# Altium footprint library Buttons.PcbLib: 4 footprints
Each footprint in its own frame and in the unit in brackets; x right, y up, seen from the top. Pads: shape width x height; smd on the part's side, far side on the other; paste and mask are expansions set on the pad; w line width, h text height; cw(c..) or ccw(c..) is an arc to the next point about the centre after c.
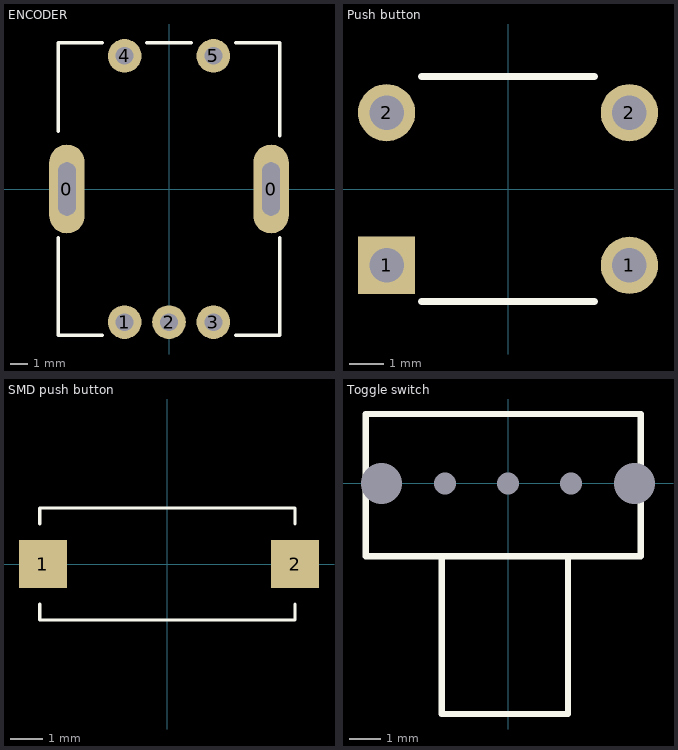
[diagram p0: the footprints below, top view; thin cyan lines are the x and y axes]

## ENCODER [mm] "Rotary encoder"
height 26
pads (7):
  oval 2x5 hole 1 slot 3 at 90 deg mask+0: 0(-5.75,0) 0(5.75,0)
  round 1.9 hole 1: 1(-2.5,-7.5) 2(0,-7.5) 3(2.5,-7.5) 4(-2.5,7.5) 5(2.5,7.5)
Top Overlay:
  lines w0.2: -6.25,-2.75 -6.25,-8.25 -3.75,-8.25 ; -6.25,3.25 -6.25,8.25 -3.75,8.25 ; -1.25,8.25 1.25,8.25 ; 3.75,-8.25 6.25,-8.25 6.25,-2.75 ; 3.75,8.25 6.25,8.25 6.25,3
3D body "Rotary_Encoder.stp": height 24.7, standoff -3.8, extent -5.85,-7.75 5.85,7.75

## Push button [mm]
height 5
pads (4):
  rect 1.65x1.65 hole 1: 1(-3.5,-2.2)
  round 1.65 hole 1: 1(3.5,-2.2) 2(-3.5,2.2) 2(3.5,2.2)
Top Overlay:
  lines w0.2: -2.5,-3.25 2.5,-3.25 ; -2.5,3.25 2.5,3.25
3D body "Push button.stp": height 5.1, standoff -3.5, extent -3.749,-3 3.749,3

## SMD push button [mm]
pads (2):
  rect 1.5x1.5 smd: 1(-3.9,0) 2(4,0)
Top Overlay:
  lines w0.1: -4,-1.25 -4,-1.75 4,-1.75 4,-1.25 ; -4,1.25 -4,1.75 4,1.75 4,1.25
3D body "Pulsador.stp": height 4.31, standoff 0.01, extent -4,-1.75 4,1.75

## Toggle switch [mm]
pads (5):
  round 0 / inner round 0 / far side oval 1x2 hole 0.7 unplated mask+0: 1(-2,0) 3(2,0)
  round 0 / inner oval 1x1.5 / far side oval 1x2 hole 0.7 unplated mask+0: 2(0,0)
  round 0 / inner round 0 / far side oval 1.6x2.6 hole 1.3 unplated mask+0: 4(-4,0) 4(4,0)
Top Overlay:
  lines w0.2: -4.5,-2.3 -4.5,2.2 4.2,2.2 4.2,-2.3 -4.5,-2.3 ; -2.1,-7.3 1.9,-7.3 1.9,-2.3 -2.1,-2.3 -2.1,-7.3
3D body "Switch2.stp": height 4.7, standoff -2.5, extent -4.35,-7.25 4.35,2.25